# Altium schematic symbol library kmilo17pet-LT_OpAmp_LT2000.SchLib: 1710 symbols (part 35 of 75)
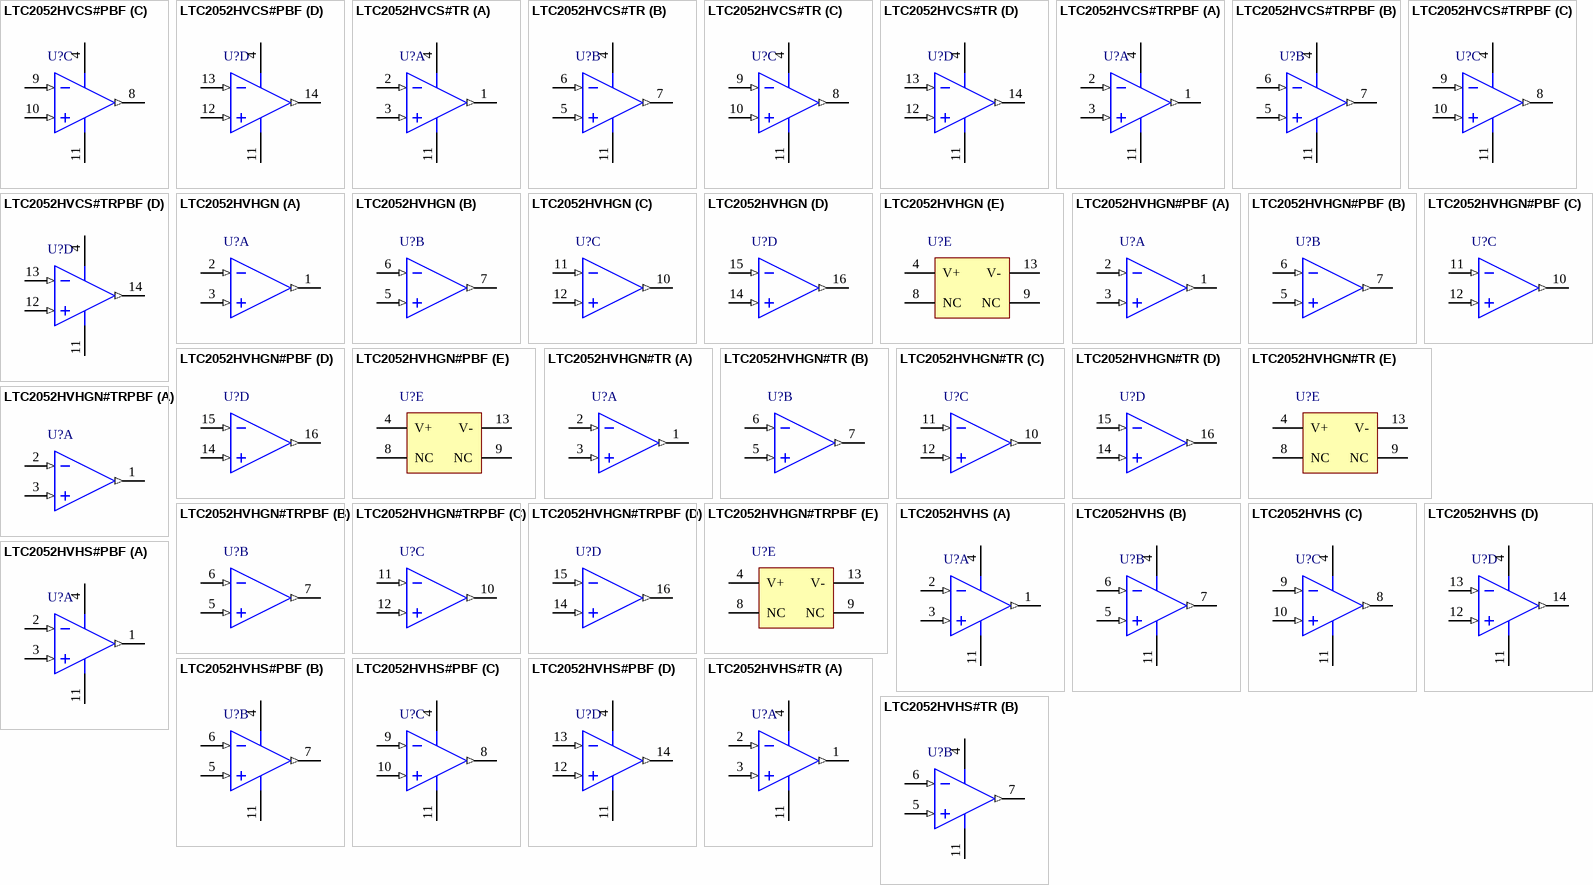
[diagram p114: symbols LTC2052HVCS#PBF to LTC2052HVHS#TR]

## LTC2052HVHS#PBF
designator U?
Quad Channel, Zero-Drift Operational Amplifier, 3 MHz Typical GBW, 2 V/us Typical SR, 2.7 to 11 V, 14-Pin SOIC (S-14), High Temperature / Automotive, Pb-Free; Linear Technology Part Number: LTC2052HV; Manufacturer: Linear Technology; PartNumber: LTC2052HVHS#PBF; Channels (#): 4; GBW (MHz) Typical: 3; Is (mA) Typical: 0.85; SR (V/us) Typical: 2; Vos (mV) Typical: 0.0005; Vs Max (V): 11; Vs Min (V): 2.7; DatasheetVersion: Rev. D; PackageVersion: Rev G; PackageReference: LT-S-14; PackageDescription: 14-Lead Plastic Small Outline, Body 8.65 x 3.90 mm, Pitch 1.27 mm; Supplier 1: Digi-Key; Supplier Part Number 1: LTC2052HVHS#PBF-ND; Supplier 2: Newark; Supplier Part Number 2: 56M4686; RoHS: Pb-Free; Type: ZD; Mounting Technology: Surface Mount; ComponentLink1Description: Manufacturer URL; ComponentLink1URL: http://www.linear.com/; ComponentLink2Description: Datasheet; ComponentLink2URL: http://cds.linear.com/docs/en/datasheet/20512fd.pdf; ComponentLink3Description: Package Specification; ComponentLink3URL: http://cds.linear.com/docs/en/packaging/05081610_G_S14.pdf
footprint LT-S-14_N (SOIC, 14-Leads, Body 8.65x3.90mm, Pitch 1.27mm, IPC Medium Density)
footprint LT-S-14_L (SOIC, 14-Leads, Body 8.65x3.90mm, Pitch 1.27mm, IPC High Density)
footprint LT-S-14_M (SOIC, 14-Leads, Body 8.65x3.90mm, Pitch 1.27mm, IPC Low Density)
pins on every part: 4 V+ (power), 11 V- (power)
part A pins: 1 OUT A (out), 2 -IN A (in), 3 +IN A (in)
part B pins: 5 +IN B (in), 6 -IN B (in), 7 OUT B (out)
part C pins: 8 OUT C (out), 9 -IN C (in), 10 +IN C (in)
part D pins: 12 +IN D (in), 13 -IN D (in), 14 OUT D (out)

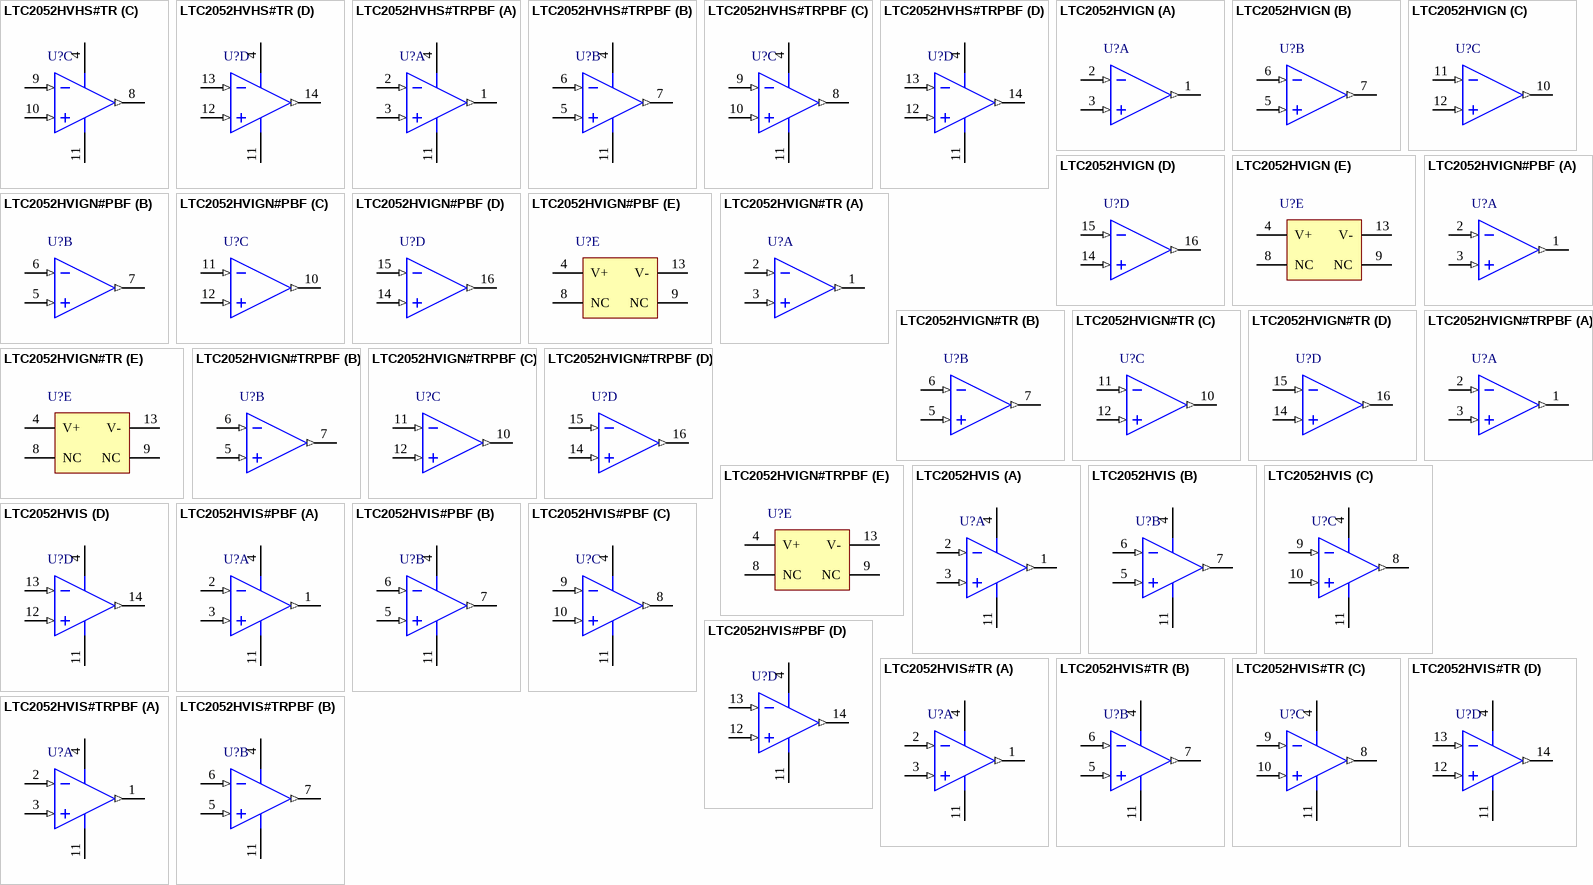
[diagram p45: symbols LTC2052HVHS#TR to LTC2052HVIS#TRPBF]

## LTC2052HVHS#TR
designator U?
Quad Channel, Zero-Drift Operational Amplifier, 3 MHz Typical GBW, 2 V/us Typical SR, 2.7 to 11 V, 14-Pin SOIC (S-14), High Temperature / Automotive, Reel; Linear Technology Part Number: LTC2052HV; Manufacturer: Linear Technology; PartNumber: LTC2052HVHS#TR; Channels (#): 4; GBW (MHz) Typical: 3; Is (mA) Typical: 0.85; SR (V/us) Typical: 2; Vos (mV) Typical: 0.0005; Vs Max (V): 11; Vs Min (V): 2.7; DatasheetVersion: Rev. D; PackageVersion: Rev G; PackageReference: LT-S-14; PackageDescription: 14-Lead Plastic Small Outline, Body 8.65 x 3.90 mm, Pitch 1.27 mm; Supplier 1: Digi-Key; Supplier Part Number 1: LTC2052HVHSTR-ND; Packing: Reel; Type: ZD; Mounting Technology: Surface Mount; ComponentLink1Description: Manufacturer URL; ComponentLink1URL: http://www.linear.com/; ComponentLink2Description: Datasheet; ComponentLink2URL: http://cds.linear.com/docs/en/datasheet/20512fd.pdf; ComponentLink3Description: Package Specification; ComponentLink3URL: http://cds.linear.com/docs/en/packaging/05081610_G_S14.pdf
footprint LT-S-14_N (SOIC, 14-Leads, Body 8.65x3.90mm, Pitch 1.27mm, IPC Medium Density)
footprint LT-S-14_L (SOIC, 14-Leads, Body 8.65x3.90mm, Pitch 1.27mm, IPC High Density)
footprint LT-S-14_M (SOIC, 14-Leads, Body 8.65x3.90mm, Pitch 1.27mm, IPC Low Density)
pins on every part: 4 V+ (power), 11 V- (power)
part A pins: 1 OUT A (out), 2 -IN A (in), 3 +IN A (in)
part B pins: 5 +IN B (in), 6 -IN B (in), 7 OUT B (out)
part C pins: 8 OUT C (out), 9 -IN C (in), 10 +IN C (in)
part D pins: 12 +IN D (in), 13 -IN D (in), 14 OUT D (out)

## LTC2052HVHS#TRPBF
designator U?
Quad Channel, Zero-Drift Operational Amplifier, 3 MHz Typical GBW, 2 V/us Typical SR, 2.7 to 11 V, 14-Pin SOIC (S-14), High Temperature / Automotive, Pb-Free, Reel; Linear Technology Part Number: LTC2052HV; Manufacturer: Linear Technology; PartNumber: LTC2052HVHS#TRPBF; Channels (#): 4; GBW (MHz) Typical: 3; Is (mA) Typical: 0.85; SR (V/us) Typical: 2; Vos (mV) Typical: 0.0005; Vs Max (V): 11; Vs Min (V): 2.7; DatasheetVersion: Rev. D; PackageVersion: Rev G; PackageReference: LT-S-14; PackageDescription: 14-Lead Plastic Small Outline, Body 8.65 x 3.90 mm, Pitch 1.27 mm; Supplier 1: Digi-Key; Supplier Part Number 1: LTC2052HVHS#TRPBF-ND; Packing: Reel; RoHS: Pb-Free; Type: ZD; Mounting Technology: Surface Mount; ComponentLink1Description: Manufacturer URL; ComponentLink1URL: http://www.linear.com/; ComponentLink2Description: Datasheet; ComponentLink2URL: http://cds.linear.com/docs/en/datasheet/20512fd.pdf; ComponentLink3Description: Package Specification; ComponentLink3URL: http://cds.linear.com/docs/en/packaging/05081610_G_S14.pdf
footprint LT-S-14_N (SOIC, 14-Leads, Body 8.65x3.90mm, Pitch 1.27mm, IPC Medium Density)
footprint LT-S-14_L (SOIC, 14-Leads, Body 8.65x3.90mm, Pitch 1.27mm, IPC High Density)
footprint LT-S-14_M (SOIC, 14-Leads, Body 8.65x3.90mm, Pitch 1.27mm, IPC Low Density)
pins on every part: 4 V+ (power), 11 V- (power)
part A pins: 1 OUT A (out), 2 -IN A (in), 3 +IN A (in)
part B pins: 5 +IN B (in), 6 -IN B (in), 7 OUT B (out)
part C pins: 8 OUT C (out), 9 -IN C (in), 10 +IN C (in)
part D pins: 12 +IN D (in), 13 -IN D (in), 14 OUT D (out)

## LTC2052HVIGN
designator U?
Quad Channel, Zero-Drift Operational Amplifier, 3 MHz Typical GBW, 2 V/us Typical SR, 2.7 to 11 V, 16-Pin SOP (GN-16), Industrial; Linear Technology Part Number: LTC2052HV; Manufacturer: Linear Technology; PartNumber: LTC2052HVIGN; Channels (#): 4; GBW (MHz) Typical: 3; Is (mA) Typical: 0.85; SR (V/us) Typical: 2; Vos (mV) Typical: 0.0005; Vs Max (V): 11; Vs Min (V): 2.7; DatasheetVersion: Rev. D; PackageVersion: Rev B; PackageReference: LT-GN-16; PackageDescription: 16-Lead Plastic SSOP, Body 4.9 x 3.9 mm, Pitch 0.635 mm; Supplier 1: Digi-Key; Supplier Part Number 1: LTC2052HVIGN-ND; Supplier 2: Newark; Supplier Part Number 2: 56M4689; Type: ZD; Mounting Technology: Surface Mount; ComponentLink1Description: Manufacturer URL; ComponentLink1URL: http://www.linear.com/; ComponentLink2Description: Datasheet; ComponentLink2URL: http://cds.linear.com/docs/en/datasheet/20512fd.pdf; ComponentLink3Description: Package Specification; ComponentLink3URL: http://cds.linear.com/docs/en/packaging/05081641_B_GN16.pdf
footprint LT-GN-16_N (SOP, 16-Leads, Body 4.9x3.9mm, Pitch 0.635mm, IPC Medium Density)
footprint LT-GN-16_L (SOP, 16-Leads, Body 4.9x3.9mm, Pitch 0.635mm, IPC High Density)
footprint LT-GN-16_M (SOP, 16-Leads, Body 4.9x3.9mm, Pitch 0.635mm, IPC Low Density)
part A pins: 1 OUT A (out), 2 -IN A (in), 3 +IN A (in)
part B pins: 5 +IN B (in), 6 -IN B (in), 7 OUT B (out)
part C pins: 10 OUT C (out), 11 -IN C (in), 12 +IN C (in)
part D pins: 14 +IN D (in), 15 -IN D (in), 16 OUT D (out)
part E pins: 4 V+ (power), 8 NC, 9 NC, 13 V- (power)

## LTC2052HVIGN#PBF
designator U?
Quad Channel, Zero-Drift Operational Amplifier, 3 MHz Typical GBW, 2 V/us Typical SR, 2.7 to 11 V, 16-Pin SOP (GN-16), Industrial, Pb-Free; Linear Technology Part Number: LTC2052HV; Manufacturer: Linear Technology; PartNumber: LTC2052HVIGN#PBF; Channels (#): 4; GBW (MHz) Typical: 3; Is (mA) Typical: 0.85; SR (V/us) Typical: 2; Vos (mV) Typical: 0.0005; Vs Max (V): 11; Vs Min (V): 2.7; DatasheetVersion: Rev. D; PackageVersion: Rev B; PackageReference: LT-GN-16; PackageDescription: 16-Lead Plastic SSOP, Body 4.9 x 3.9 mm, Pitch 0.635 mm; Supplier 1: Digi-Key; Supplier Part Number 1: LTC2052HVIGN#PBF-ND; Supplier 2: Farnell; Supplier Part Number 2: 2294728; Supplier 3: Newark; Supplier Part Number 3: 56M4690; RoHS: Pb-Free; Type: ZD; Mounting Technology: Surface Mount; ComponentLink1Description: Manufacturer URL; ComponentLink1URL: http://www.linear.com/; ComponentLink2Description: Datasheet; ComponentLink2URL: http://cds.linear.com/docs/en/datasheet/20512fd.pdf; ComponentLink3Description: Package Specification; ComponentLink3URL: http://cds.linear.com/docs/en/packaging/05081641_B_GN16.pdf
footprint LT-GN-16_N (SOP, 16-Leads, Body 4.9x3.9mm, Pitch 0.635mm, IPC Medium Density)
footprint LT-GN-16_L (SOP, 16-Leads, Body 4.9x3.9mm, Pitch 0.635mm, IPC High Density)
footprint LT-GN-16_M (SOP, 16-Leads, Body 4.9x3.9mm, Pitch 0.635mm, IPC Low Density)
part A pins: 1 OUT A (out), 2 -IN A (in), 3 +IN A (in)
part B pins: 5 +IN B (in), 6 -IN B (in), 7 OUT B (out)
part C pins: 10 OUT C (out), 11 -IN C (in), 12 +IN C (in)
part D pins: 14 +IN D (in), 15 -IN D (in), 16 OUT D (out)
part E pins: 4 V+ (power), 8 NC, 9 NC, 13 V- (power)

## LTC2052HVIGN#TR
designator U?
Quad Channel, Zero-Drift Operational Amplifier, 3 MHz Typical GBW, 2 V/us Typical SR, 2.7 to 11 V, 16-Pin SOP (GN-16), Industrial, Reel; Linear Technology Part Number: LTC2052HV; Manufacturer: Linear Technology; PartNumber: LTC2052HVIGN#TR; Channels (#): 4; GBW (MHz) Typical: 3; Is (mA) Typical: 0.85; SR (V/us) Typical: 2; Vos (mV) Typical: 0.0005; Vs Max (V): 11; Vs Min (V): 2.7; DatasheetVersion: Rev. D; PackageVersion: Rev B; PackageReference: LT-GN-16; PackageDescription: 16-Lead Plastic SSOP, Body 4.9 x 3.9 mm, Pitch 0.635 mm; Supplier 1: Digi-Key; Supplier Part Number 1: LTC2052HVIGNTR-ND; Supplier 2: Newark; Supplier Part Number 2: 56M4691; Packing: Reel; Type: ZD; Mounting Technology: Surface Mount; ComponentLink1Description: Manufacturer URL; ComponentLink1URL: http://www.linear.com/; ComponentLink2Description: Datasheet; ComponentLink2URL: http://cds.linear.com/docs/en/datasheet/20512fd.pdf; ComponentLink3Description: Package Specification; ComponentLink3URL: http://cds.linear.com/docs/en/packaging/05081641_B_GN16.pdf
footprint LT-GN-16_N (SOP, 16-Leads, Body 4.9x3.9mm, Pitch 0.635mm, IPC Medium Density)
footprint LT-GN-16_L (SOP, 16-Leads, Body 4.9x3.9mm, Pitch 0.635mm, IPC High Density)
footprint LT-GN-16_M (SOP, 16-Leads, Body 4.9x3.9mm, Pitch 0.635mm, IPC Low Density)
part A pins: 1 OUT A (out), 2 -IN A (in), 3 +IN A (in)
part B pins: 5 +IN B (in), 6 -IN B (in), 7 OUT B (out)
part C pins: 10 OUT C (out), 11 -IN C (in), 12 +IN C (in)
part D pins: 14 +IN D (in), 15 -IN D (in), 16 OUT D (out)
part E pins: 4 V+ (power), 8 NC, 9 NC, 13 V- (power)

## LTC2052HVIGN#TRPBF
designator U?
Quad Channel, Zero-Drift Operational Amplifier, 3 MHz Typical GBW, 2 V/us Typical SR, 2.7 to 11 V, 16-Pin SOP (GN-16), Industrial, Pb-Free, Reel; Linear Technology Part Number: LTC2052HV; Manufacturer: Linear Technology; PartNumber: LTC2052HVIGN#TRPBF; Channels (#): 4; GBW (MHz) Typical: 3; Is (mA) Typical: 0.85; SR (V/us) Typical: 2; Vos (mV) Typical: 0.0005; Vs Max (V): 11; Vs Min (V): 2.7; DatasheetVersion: Rev. D; PackageVersion: Rev B; PackageReference: LT-GN-16; PackageDescription: 16-Lead Plastic SSOP, Body 4.9 x 3.9 mm, Pitch 0.635 mm; Supplier 1: Digi-Key; Supplier Part Number 1: LTC2052HVIGN#TRPBF-ND; Packing: Reel; RoHS: Pb-Free; Type: ZD; Mounting Technology: Surface Mount; ComponentLink1Description: Manufacturer URL; ComponentLink1URL: http://www.linear.com/; ComponentLink2Description: Datasheet; ComponentLink2URL: http://cds.linear.com/docs/en/datasheet/20512fd.pdf; ComponentLink3Description: Package Specification; ComponentLink3URL: http://cds.linear.com/docs/en/packaging/05081641_B_GN16.pdf
footprint LT-GN-16_N (SOP, 16-Leads, Body 4.9x3.9mm, Pitch 0.635mm, IPC Medium Density)
footprint LT-GN-16_L (SOP, 16-Leads, Body 4.9x3.9mm, Pitch 0.635mm, IPC High Density)
footprint LT-GN-16_M (SOP, 16-Leads, Body 4.9x3.9mm, Pitch 0.635mm, IPC Low Density)
part A pins: 1 OUT A (out), 2 -IN A (in), 3 +IN A (in)
part B pins: 5 +IN B (in), 6 -IN B (in), 7 OUT B (out)
part C pins: 10 OUT C (out), 11 -IN C (in), 12 +IN C (in)
part D pins: 14 +IN D (in), 15 -IN D (in), 16 OUT D (out)
part E pins: 4 V+ (power), 8 NC, 9 NC, 13 V- (power)

## LTC2052HVIS
designator U?
Quad Channel, Zero-Drift Operational Amplifier, 3 MHz Typical GBW, 2 V/us Typical SR, 2.7 to 11 V, 14-Pin SOIC (S-14), Industrial; Linear Technology Part Number: LTC2052HV; Manufacturer: Linear Technology; PartNumber: LTC2052HVIS; Channels (#): 4; GBW (MHz) Typical: 3; Is (mA) Typical: 0.85; SR (V/us) Typical: 2; Vos (mV) Typical: 0.0005; Vs Max (V): 11; Vs Min (V): 2.7; DatasheetVersion: Rev. D; PackageVersion: Rev G; PackageReference: LT-S-14; PackageDescription: 14-Lead Plastic Small Outline, Body 8.65 x 3.90 mm, Pitch 1.27 mm; Supplier 1: Digi-Key; Supplier Part Number 1: LTC2052HVIS-ND; Type: ZD; Mounting Technology: Surface Mount; ComponentLink1Description: Manufacturer URL; ComponentLink1URL: http://www.linear.com/; ComponentLink2Description: Datasheet; ComponentLink2URL: http://cds.linear.com/docs/en/datasheet/20512fd.pdf; ComponentLink3Description: Package Specification; ComponentLink3URL: http://cds.linear.com/docs/en/packaging/05081610_G_S14.pdf
footprint LT-S-14_N (SOIC, 14-Leads, Body 8.65x3.90mm, Pitch 1.27mm, IPC Medium Density)
footprint LT-S-14_L (SOIC, 14-Leads, Body 8.65x3.90mm, Pitch 1.27mm, IPC High Density)
footprint LT-S-14_M (SOIC, 14-Leads, Body 8.65x3.90mm, Pitch 1.27mm, IPC Low Density)
pins on every part: 4 V+ (power), 11 V- (power)
part A pins: 1 OUT A (out), 2 -IN A (in), 3 +IN A (in)
part B pins: 5 +IN B (in), 6 -IN B (in), 7 OUT B (out)
part C pins: 8 OUT C (out), 9 -IN C (in), 10 +IN C (in)
part D pins: 12 +IN D (in), 13 -IN D (in), 14 OUT D (out)

## LTC2052HVIS#PBF
designator U?
Quad Channel, Zero-Drift Operational Amplifier, 3 MHz Typical GBW, 2 V/us Typical SR, 2.7 to 11 V, 14-Pin SOIC (S-14), Industrial, Pb-Free; Linear Technology Part Number: LTC2052HV; Manufacturer: Linear Technology; PartNumber: LTC2052HVIS#PBF; Channels (#): 4; GBW (MHz) Typical: 3; Is (mA) Typical: 0.85; SR (V/us) Typical: 2; Vos (mV) Typical: 0.0005; Vs Max (V): 11; Vs Min (V): 2.7; DatasheetVersion: Rev. D; PackageVersion: Rev G; PackageReference: LT-S-14; PackageDescription: 14-Lead Plastic Small Outline, Body 8.65 x 3.90 mm, Pitch 1.27 mm; Supplier 1: Digi-Key; Supplier Part Number 1: LTC2052HVIS#PBF-ND; Supplier 2: Newark; Supplier Part Number 2: 56M4694; RoHS: Pb-Free; Type: ZD; Mounting Technology: Surface Mount; ComponentLink1Description: Manufacturer URL; ComponentLink1URL: http://www.linear.com/; ComponentLink2Description: Datasheet; ComponentLink2URL: http://cds.linear.com/docs/en/datasheet/20512fd.pdf; ComponentLink3Description: Package Specification; ComponentLink3URL: http://cds.linear.com/docs/en/packaging/05081610_G_S14.pdf
footprint LT-S-14_N (SOIC, 14-Leads, Body 8.65x3.90mm, Pitch 1.27mm, IPC Medium Density)
footprint LT-S-14_L (SOIC, 14-Leads, Body 8.65x3.90mm, Pitch 1.27mm, IPC High Density)
footprint LT-S-14_M (SOIC, 14-Leads, Body 8.65x3.90mm, Pitch 1.27mm, IPC Low Density)
pins on every part: 4 V+ (power), 11 V- (power)
part A pins: 1 OUT A (out), 2 -IN A (in), 3 +IN A (in)
part B pins: 5 +IN B (in), 6 -IN B (in), 7 OUT B (out)
part C pins: 8 OUT C (out), 9 -IN C (in), 10 +IN C (in)
part D pins: 12 +IN D (in), 13 -IN D (in), 14 OUT D (out)

## LTC2052HVIS#TR
designator U?
Quad Channel, Zero-Drift Operational Amplifier, 3 MHz Typical GBW, 2 V/us Typical SR, 2.7 to 11 V, 14-Pin SOIC (S-14), Industrial, Reel; Linear Technology Part Number: LTC2052HV; Manufacturer: Linear Technology; PartNumber: LTC2052HVIS#TR; Channels (#): 4; GBW (MHz) Typical: 3; Is (mA) Typical: 0.85; SR (V/us) Typical: 2; Vos (mV) Typical: 0.0005; Vs Max (V): 11; Vs Min (V): 2.7; DatasheetVersion: Rev. D; PackageVersion: Rev G; PackageReference: LT-S-14; PackageDescription: 14-Lead Plastic Small Outline, Body 8.65 x 3.90 mm, Pitch 1.27 mm; Supplier 1: Digi-Key; Supplier Part Number 1: LTC2052HVISTR-ND; Packing: Reel; Type: ZD; Mounting Technology: Surface Mount; ComponentLink1Description: Manufacturer URL; ComponentLink1URL: http://www.linear.com/; ComponentLink2Description: Datasheet; ComponentLink2URL: http://cds.linear.com/docs/en/datasheet/20512fd.pdf; ComponentLink3Description: Package Specification; ComponentLink3URL: http://cds.linear.com/docs/en/packaging/05081610_G_S14.pdf
footprint LT-S-14_N (SOIC, 14-Leads, Body 8.65x3.90mm, Pitch 1.27mm, IPC Medium Density)
footprint LT-S-14_L (SOIC, 14-Leads, Body 8.65x3.90mm, Pitch 1.27mm, IPC High Density)
footprint LT-S-14_M (SOIC, 14-Leads, Body 8.65x3.90mm, Pitch 1.27mm, IPC Low Density)
pins on every part: 4 V+ (power), 11 V- (power)
part A pins: 1 OUT A (out), 2 -IN A (in), 3 +IN A (in)
part B pins: 5 +IN B (in), 6 -IN B (in), 7 OUT B (out)
part C pins: 8 OUT C (out), 9 -IN C (in), 10 +IN C (in)
part D pins: 12 +IN D (in), 13 -IN D (in), 14 OUT D (out)

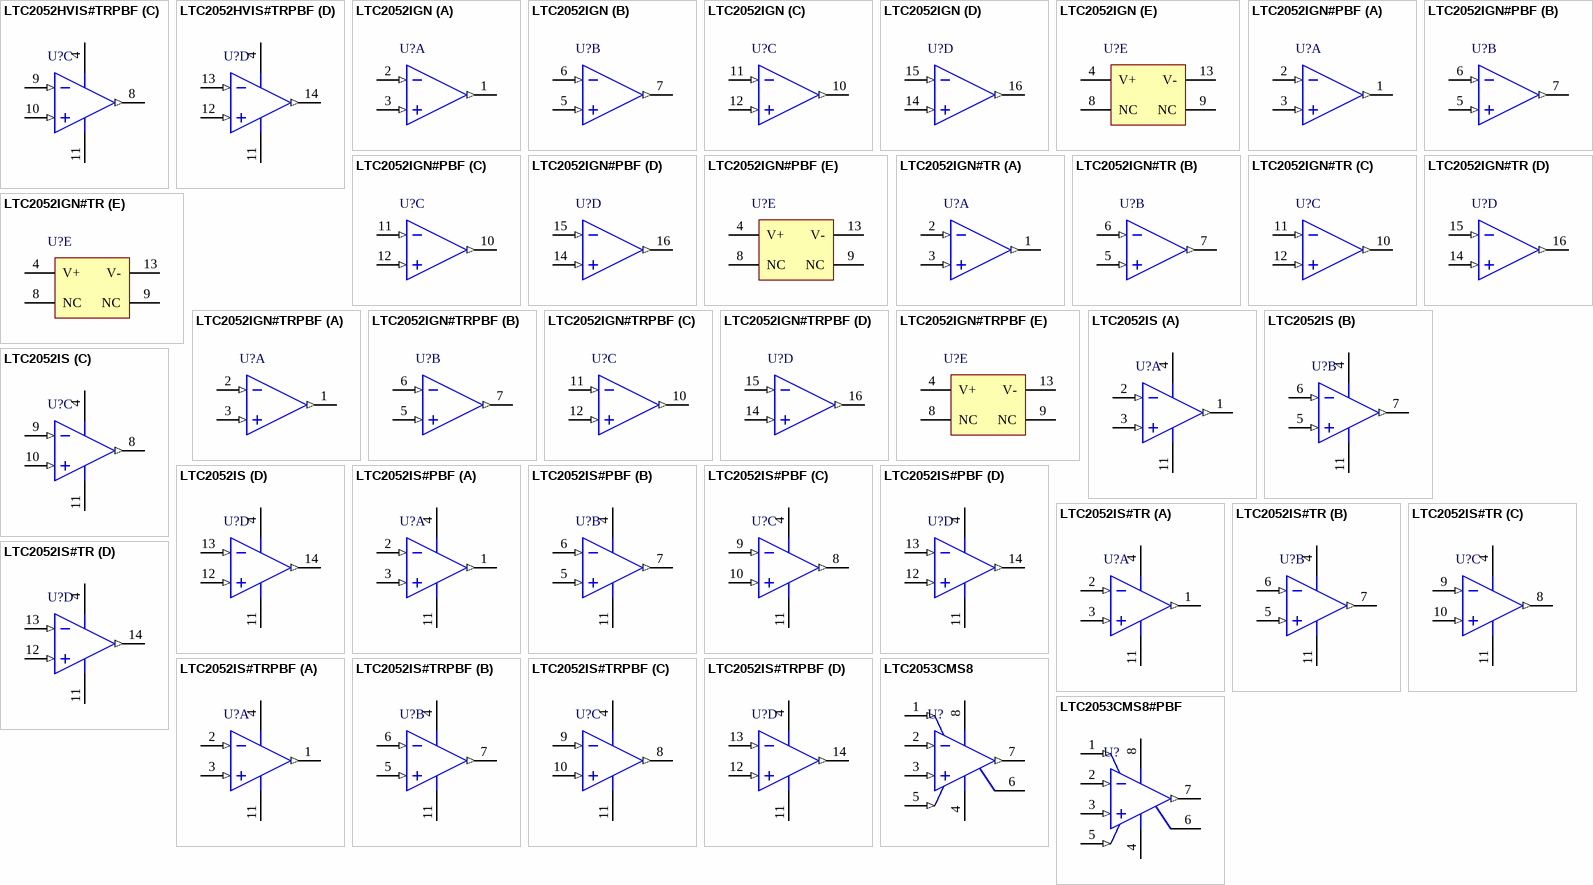
[diagram p46: symbols LTC2052HVIS#TRPBF to LTC2053CMS8#PBF]

## LTC2052HVIS#TRPBF
designator U?
Quad Channel, Zero-Drift Operational Amplifier, 3 MHz Typical GBW, 2 V/us Typical SR, 2.7 to 11 V, 14-Pin SOIC (S-14), Industrial, Pb-Free, Reel; Linear Technology Part Number: LTC2052HV; Manufacturer: Linear Technology; PartNumber: LTC2052HVIS#TRPBF; Channels (#): 4; GBW (MHz) Typical: 3; Is (mA) Typical: 0.85; SR (V/us) Typical: 2; Vos (mV) Typical: 0.0005; Vs Max (V): 11; Vs Min (V): 2.7; DatasheetVersion: Rev. D; PackageVersion: Rev G; PackageReference: LT-S-14; PackageDescription: 14-Lead Plastic Small Outline, Body 8.65 x 3.90 mm, Pitch 1.27 mm; Supplier 1: Digi-Key; Supplier Part Number 1: LTC2052HVIS#TRPBF-ND; Packing: Reel; RoHS: Pb-Free; Type: ZD; Mounting Technology: Surface Mount; ComponentLink1Description: Manufacturer URL; ComponentLink1URL: http://www.linear.com/; ComponentLink2Description: Datasheet; ComponentLink2URL: http://cds.linear.com/docs/en/datasheet/20512fd.pdf; ComponentLink3Description: Package Specification; ComponentLink3URL: http://cds.linear.com/docs/en/packaging/05081610_G_S14.pdf
footprint LT-S-14_N (SOIC, 14-Leads, Body 8.65x3.90mm, Pitch 1.27mm, IPC Medium Density)
footprint LT-S-14_L (SOIC, 14-Leads, Body 8.65x3.90mm, Pitch 1.27mm, IPC High Density)
footprint LT-S-14_M (SOIC, 14-Leads, Body 8.65x3.90mm, Pitch 1.27mm, IPC Low Density)
pins on every part: 4 V+ (power), 11 V- (power)
part A pins: 1 OUT A (out), 2 -IN A (in), 3 +IN A (in)
part B pins: 5 +IN B (in), 6 -IN B (in), 7 OUT B (out)
part C pins: 8 OUT C (out), 9 -IN C (in), 10 +IN C (in)
part D pins: 12 +IN D (in), 13 -IN D (in), 14 OUT D (out)

## LTC2052IGN
designator U?
Quad Channel, Zero-Drift Operational Amplifier, 3 MHz Typical GBW, 2 V/us Typical SR, 2.7 to 6 V, 16-Pin SOP (GN-16), Industrial; Linear Technology Part Number: LTC2052; Manufacturer: Linear Technology; PartNumber: LTC2052IGN; Channels (#): 4; GBW (MHz) Typical: 3; Is (mA) Typical: 0.85; SR (V/us) Typical: 2; Vos (mV) Typical: 0.0005; Vs Max (V): 6; Vs Min (V): 2.7; DatasheetVersion: Rev. D; PackageVersion: Rev B; PackageReference: LT-GN-16; PackageDescription: 16-Lead Plastic SSOP, Body 4.9 x 3.9 mm, Pitch 0.635 mm; Supplier 1: Digi-Key; Supplier Part Number 1: LTC2052IGN-ND; Type: ZD; Mounting Technology: Surface Mount; ComponentLink1Description: Manufacturer URL; ComponentLink1URL: http://www.linear.com/; ComponentLink2Description: Datasheet; ComponentLink2URL: http://cds.linear.com/docs/en/datasheet/20512fd.pdf; ComponentLink3Description: Package Specification; ComponentLink3URL: http://cds.linear.com/docs/en/packaging/05081641_B_GN16.pdf
footprint LT-GN-16_N (SOP, 16-Leads, Body 4.9x3.9mm, Pitch 0.635mm, IPC Medium Density)
footprint LT-GN-16_L (SOP, 16-Leads, Body 4.9x3.9mm, Pitch 0.635mm, IPC High Density)
footprint LT-GN-16_M (SOP, 16-Leads, Body 4.9x3.9mm, Pitch 0.635mm, IPC Low Density)
part A pins: 1 OUT A (out), 2 -IN A (in), 3 +IN A (in)
part B pins: 5 +IN B (in), 6 -IN B (in), 7 OUT B (out)
part C pins: 10 OUT C (out), 11 -IN C (in), 12 +IN C (in)
part D pins: 14 +IN D (in), 15 -IN D (in), 16 OUT D (out)
part E pins: 4 V+ (power), 8 NC, 9 NC, 13 V- (power)

## LTC2052IGN#PBF
designator U?
Quad Channel, Zero-Drift Operational Amplifier, 3 MHz Typical GBW, 2 V/us Typical SR, 2.7 to 6 V, 16-Pin SOP (GN-16), Industrial, Pb-Free; Linear Technology Part Number: LTC2052; Manufacturer: Linear Technology; PartNumber: LTC2052IGN#PBF; Channels (#): 4; GBW (MHz) Typical: 3; Is (mA) Typical: 0.85; SR (V/us) Typical: 2; Vos (mV) Typical: 0.0005; Vs Max (V): 6; Vs Min (V): 2.7; DatasheetVersion: Rev. D; PackageVersion: Rev B; PackageReference: LT-GN-16; PackageDescription: 16-Lead Plastic SSOP, Body 4.9 x 3.9 mm, Pitch 0.635 mm; Supplier 1: Digi-Key; Supplier Part Number 1: LTC2052IGN#PBF-ND; Supplier 2: Newark; Supplier Part Number 2: 56M4698; RoHS: Pb-Free; Type: ZD; Mounting Technology: Surface Mount; ComponentLink1Description: Manufacturer URL; ComponentLink1URL: http://www.linear.com/; ComponentLink2Description: Datasheet; ComponentLink2URL: http://cds.linear.com/docs/en/datasheet/20512fd.pdf; ComponentLink3Description: Package Specification; ComponentLink3URL: http://cds.linear.com/docs/en/packaging/05081641_B_GN16.pdf
footprint LT-GN-16_N (SOP, 16-Leads, Body 4.9x3.9mm, Pitch 0.635mm, IPC Medium Density)
footprint LT-GN-16_L (SOP, 16-Leads, Body 4.9x3.9mm, Pitch 0.635mm, IPC High Density)
footprint LT-GN-16_M (SOP, 16-Leads, Body 4.9x3.9mm, Pitch 0.635mm, IPC Low Density)
part A pins: 1 OUT A (out), 2 -IN A (in), 3 +IN A (in)
part B pins: 5 +IN B (in), 6 -IN B (in), 7 OUT B (out)
part C pins: 10 OUT C (out), 11 -IN C (in), 12 +IN C (in)
part D pins: 14 +IN D (in), 15 -IN D (in), 16 OUT D (out)
part E pins: 4 V+ (power), 8 NC, 9 NC, 13 V- (power)

## LTC2052IGN#TR
designator U?
Quad Channel, Zero-Drift Operational Amplifier, 3 MHz Typical GBW, 2 V/us Typical SR, 2.7 to 6 V, 16-Pin SOP (GN-16), Industrial, Reel; Linear Technology Part Number: LTC2052; Manufacturer: Linear Technology; PartNumber: LTC2052IGN#TR; Channels (#): 4; GBW (MHz) Typical: 3; Is (mA) Typical: 0.85; SR (V/us) Typical: 2; Vos (mV) Typical: 0.0005; Vs Max (V): 6; Vs Min (V): 2.7; DatasheetVersion: Rev. D; PackageVersion: Rev B; PackageReference: LT-GN-16; PackageDescription: 16-Lead Plastic SSOP, Body 4.9 x 3.9 mm, Pitch 0.635 mm; Supplier 1: Digi-Key; Supplier Part Number 1: LTC2052IGNTR-ND; Packing: Reel; Type: ZD; Mounting Technology: Surface Mount; ComponentLink1Description: Manufacturer URL; ComponentLink1URL: http://www.linear.com/; ComponentLink2Description: Datasheet; ComponentLink2URL: http://cds.linear.com/docs/en/datasheet/20512fd.pdf; ComponentLink3Description: Package Specification; ComponentLink3URL: http://cds.linear.com/docs/en/packaging/05081641_B_GN16.pdf
footprint LT-GN-16_N (SOP, 16-Leads, Body 4.9x3.9mm, Pitch 0.635mm, IPC Medium Density)
footprint LT-GN-16_L (SOP, 16-Leads, Body 4.9x3.9mm, Pitch 0.635mm, IPC High Density)
footprint LT-GN-16_M (SOP, 16-Leads, Body 4.9x3.9mm, Pitch 0.635mm, IPC Low Density)
part A pins: 1 OUT A (out), 2 -IN A (in), 3 +IN A (in)
part B pins: 5 +IN B (in), 6 -IN B (in), 7 OUT B (out)
part C pins: 10 OUT C (out), 11 -IN C (in), 12 +IN C (in)
part D pins: 14 +IN D (in), 15 -IN D (in), 16 OUT D (out)
part E pins: 4 V+ (power), 8 NC, 9 NC, 13 V- (power)

## LTC2052IGN#TRPBF
designator U?
Quad Channel, Zero-Drift Operational Amplifier, 3 MHz Typical GBW, 2 V/us Typical SR, 2.7 to 6 V, 16-Pin SOP (GN-16), Industrial, Pb-Free, Reel; Linear Technology Part Number: LTC2052; Manufacturer: Linear Technology; PartNumber: LTC2052IGN#TRPBF; Channels (#): 4; GBW (MHz) Typical: 3; Is (mA) Typical: 0.85; SR (V/us) Typical: 2; Vos (mV) Typical: 0.0005; Vs Max (V): 6; Vs Min (V): 2.7; DatasheetVersion: Rev. D; PackageVersion: Rev B; PackageReference: LT-GN-16; PackageDescription: 16-Lead Plastic SSOP, Body 4.9 x 3.9 mm, Pitch 0.635 mm; Supplier 1: Digi-Key; Supplier Part Number 1: LTC2052IGN#TRPBF-ND; Packing: Reel; RoHS: Pb-Free; Type: ZD; Mounting Technology: Surface Mount; ComponentLink1Description: Manufacturer URL; ComponentLink1URL: http://www.linear.com/; ComponentLink2Description: Datasheet; ComponentLink2URL: http://cds.linear.com/docs/en/datasheet/20512fd.pdf; ComponentLink3Description: Package Specification; ComponentLink3URL: http://cds.linear.com/docs/en/packaging/05081641_B_GN16.pdf
footprint LT-GN-16_N (SOP, 16-Leads, Body 4.9x3.9mm, Pitch 0.635mm, IPC Medium Density)
footprint LT-GN-16_L (SOP, 16-Leads, Body 4.9x3.9mm, Pitch 0.635mm, IPC High Density)
footprint LT-GN-16_M (SOP, 16-Leads, Body 4.9x3.9mm, Pitch 0.635mm, IPC Low Density)
part A pins: 1 OUT A (out), 2 -IN A (in), 3 +IN A (in)
part B pins: 5 +IN B (in), 6 -IN B (in), 7 OUT B (out)
part C pins: 10 OUT C (out), 11 -IN C (in), 12 +IN C (in)
part D pins: 14 +IN D (in), 15 -IN D (in), 16 OUT D (out)
part E pins: 4 V+ (power), 8 NC, 9 NC, 13 V- (power)

## LTC2052IS
designator U?
Quad Channel, Zero-Drift Operational Amplifier, 3 MHz Typical GBW, 2 V/us Typical SR, 2.7 to 6 V, 14-Pin SOIC (S-14), Industrial; Linear Technology Part Number: LTC2052; Manufacturer: Linear Technology; PartNumber: LTC2052IS; Channels (#): 4; GBW (MHz) Typical: 3; Is (mA) Typical: 0.85; SR (V/us) Typical: 2; Vos (mV) Typical: 0.0005; Vs Max (V): 6; Vs Min (V): 2.7; DatasheetVersion: Rev. D; PackageVersion: Rev G; PackageReference: LT-S-14; PackageDescription: 14-Lead Plastic Small Outline, Body 8.65 x 3.90 mm, Pitch 1.27 mm; Supplier 1: Digi-Key; Supplier Part Number 1: LTC2052IS-ND; Type: ZD; Mounting Technology: Surface Mount; ComponentLink1Description: Manufacturer URL; ComponentLink1URL: http://www.linear.com/; ComponentLink2Description: Datasheet; ComponentLink2URL: http://cds.linear.com/docs/en/datasheet/20512fd.pdf; ComponentLink3Description: Package Specification; ComponentLink3URL: http://cds.linear.com/docs/en/packaging/05081610_G_S14.pdf
footprint LT-S-14_N (SOIC, 14-Leads, Body 8.65x3.90mm, Pitch 1.27mm, IPC Medium Density)
footprint LT-S-14_L (SOIC, 14-Leads, Body 8.65x3.90mm, Pitch 1.27mm, IPC High Density)
footprint LT-S-14_M (SOIC, 14-Leads, Body 8.65x3.90mm, Pitch 1.27mm, IPC Low Density)
pins on every part: 4 V+ (power), 11 V- (power)
part A pins: 1 OUT A (out), 2 -IN A (in), 3 +IN A (in)
part B pins: 5 +IN B (in), 6 -IN B (in), 7 OUT B (out)
part C pins: 8 OUT C (out), 9 -IN C (in), 10 +IN C (in)
part D pins: 12 +IN D (in), 13 -IN D (in), 14 OUT D (out)

## LTC2052IS#PBF
designator U?
Quad Channel, Zero-Drift Operational Amplifier, 3 MHz Typical GBW, 2 V/us Typical SR, 2.7 to 6 V, 14-Pin SOIC (S-14), Industrial, Pb-Free; Linear Technology Part Number: LTC2052; Manufacturer: Linear Technology; PartNumber: LTC2052IS#PBF; Channels (#): 4; GBW (MHz) Typical: 3; Is (mA) Typical: 0.85; SR (V/us) Typical: 2; Vos (mV) Typical: 0.0005; Vs Max (V): 6; Vs Min (V): 2.7; DatasheetVersion: Rev. D; PackageVersion: Rev G; PackageReference: LT-S-14; PackageDescription: 14-Lead Plastic Small Outline, Body 8.65 x 3.90 mm, Pitch 1.27 mm; Supplier 1: Digi-Key; Supplier Part Number 1: LTC2052IS#PBF-ND; Supplier 2: Farnell; Supplier Part Number 2: 2294729; Supplier 3: Newark; Supplier Part Number 3: 56M4702; RoHS: Pb-Free; Type: ZD; Mounting Technology: Surface Mount; ComponentLink1Description: Manufacturer URL; ComponentLink1URL: http://www.linear.com/; ComponentLink2Description: Datasheet; ComponentLink2URL: http://cds.linear.com/docs/en/datasheet/20512fd.pdf; ComponentLink3Description: Package Specification; ComponentLink3URL: http://cds.linear.com/docs/en/packaging/05081610_G_S14.pdf
footprint LT-S-14_N (SOIC, 14-Leads, Body 8.65x3.90mm, Pitch 1.27mm, IPC Medium Density)
footprint LT-S-14_L (SOIC, 14-Leads, Body 8.65x3.90mm, Pitch 1.27mm, IPC High Density)
footprint LT-S-14_M (SOIC, 14-Leads, Body 8.65x3.90mm, Pitch 1.27mm, IPC Low Density)
pins on every part: 4 V+ (power), 11 V- (power)
part A pins: 1 OUT A (out), 2 -IN A (in), 3 +IN A (in)
part B pins: 5 +IN B (in), 6 -IN B (in), 7 OUT B (out)
part C pins: 8 OUT C (out), 9 -IN C (in), 10 +IN C (in)
part D pins: 12 +IN D (in), 13 -IN D (in), 14 OUT D (out)

## LTC2052IS#TR
designator U?
Quad Channel, Zero-Drift Operational Amplifier, 3 MHz Typical GBW, 2 V/us Typical SR, 2.7 to 6 V, 14-Pin SOIC (S-14), Industrial, Reel; Linear Technology Part Number: LTC2052; Manufacturer: Linear Technology; PartNumber: LTC2052IS#TR; Channels (#): 4; GBW (MHz) Typical: 3; Is (mA) Typical: 0.85; SR (V/us) Typical: 2; Vos (mV) Typical: 0.0005; Vs Max (V): 6; Vs Min (V): 2.7; DatasheetVersion: Rev. D; PackageVersion: Rev G; PackageReference: LT-S-14; PackageDescription: 14-Lead Plastic Small Outline, Body 8.65 x 3.90 mm, Pitch 1.27 mm; Supplier 1: Digi-Key; Supplier Part Number 1: LTC2052ISTR-ND; Packing: Reel; Type: ZD; Mounting Technology: Surface Mount; ComponentLink1Description: Manufacturer URL; ComponentLink1URL: http://www.linear.com/; ComponentLink2Description: Datasheet; ComponentLink2URL: http://cds.linear.com/docs/en/datasheet/20512fd.pdf; ComponentLink3Description: Package Specification; ComponentLink3URL: http://cds.linear.com/docs/en/packaging/05081610_G_S14.pdf
footprint LT-S-14_N (SOIC, 14-Leads, Body 8.65x3.90mm, Pitch 1.27mm, IPC Medium Density)
footprint LT-S-14_L (SOIC, 14-Leads, Body 8.65x3.90mm, Pitch 1.27mm, IPC High Density)
footprint LT-S-14_M (SOIC, 14-Leads, Body 8.65x3.90mm, Pitch 1.27mm, IPC Low Density)
pins on every part: 4 V+ (power), 11 V- (power)
part A pins: 1 OUT A (out), 2 -IN A (in), 3 +IN A (in)
part B pins: 5 +IN B (in), 6 -IN B (in), 7 OUT B (out)
part C pins: 8 OUT C (out), 9 -IN C (in), 10 +IN C (in)
part D pins: 12 +IN D (in), 13 -IN D (in), 14 OUT D (out)

## LTC2052IS#TRPBF
designator U?
Quad Channel, Zero-Drift Operational Amplifier, 3 MHz Typical GBW, 2 V/us Typical SR, 2.7 to 6 V, 14-Pin SOIC (S-14), Industrial, Pb-Free, Reel; Linear Technology Part Number: LTC2052; Manufacturer: Linear Technology; PartNumber: LTC2052IS#TRPBF; Channels (#): 4; GBW (MHz) Typical: 3; Is (mA) Typical: 0.85; SR (V/us) Typical: 2; Vos (mV) Typical: 0.0005; Vs Max (V): 6; Vs Min (V): 2.7; DatasheetVersion: Rev. D; PackageVersion: Rev G; PackageReference: LT-S-14; PackageDescription: 14-Lead Plastic Small Outline, Body 8.65 x 3.90 mm, Pitch 1.27 mm; Supplier 1: Digi-Key; Supplier Part Number 1: LTC2052IS#TRPBF-ND; Packing: Reel; RoHS: Pb-Free; Type: ZD; Mounting Technology: Surface Mount; ComponentLink1Description: Manufacturer URL; ComponentLink1URL: http://www.linear.com/; ComponentLink2Description: Datasheet; ComponentLink2URL: http://cds.linear.com/docs/en/datasheet/20512fd.pdf; ComponentLink3Description: Package Specification; ComponentLink3URL: http://cds.linear.com/docs/en/packaging/05081610_G_S14.pdf
footprint LT-S-14_N (SOIC, 14-Leads, Body 8.65x3.90mm, Pitch 1.27mm, IPC Medium Density)
footprint LT-S-14_L (SOIC, 14-Leads, Body 8.65x3.90mm, Pitch 1.27mm, IPC High Density)
footprint LT-S-14_M (SOIC, 14-Leads, Body 8.65x3.90mm, Pitch 1.27mm, IPC Low Density)
pins on every part: 4 V+ (power), 11 V- (power)
part A pins: 1 OUT A (out), 2 -IN A (in), 3 +IN A (in)
part B pins: 5 +IN B (in), 6 -IN B (in), 7 OUT B (out)
part C pins: 8 OUT C (out), 9 -IN C (in), 10 +IN C (in)
part D pins: 12 +IN D (in), 13 -IN D (in), 14 OUT D (out)

## LTC2053CMS8
designator U?
Single Channel, Precision, Rail-to-Rail, Zero-Drift, Resistor-Programmable Instrumentation Amplifier, 0.2 MHz Typical GBW, 0.2 V/us Typical SR, 2.7 to 11 V, 8-Pin SOP (MS8-8), Commercial; Linear Technology Part Number: LTC2053; Manufacturer: Linear Technology; PartNumber: LTC2053CMS8; Channels (#): 1; GBW (MHz) Typical: 0.2; Is (mA) Typical: 0.95; Vos (mV) Typical: 0.005; Vs Max (V): 11; Vs Min (V): 2.7; DatasheetVersion: Rev. C; PackageVersion: Rev G; PackageReference: LT-MS8-8; PackageDescription: 8-Lead Plastic Small Outline, Body 3.9 x 4.9 mm, Pitch 1.27 mm; Supplier 1: Digi-Key; Supplier Part Number 1: LTC2053CMS8-ND; Supplier 2: Newark; Supplier Part Number 2: 56M4709; SR (V/us) Typical: 0.2; Type: ZD, IA; Mounting Technology: Surface Mount; ComponentLink1Description: Manufacturer URL; ComponentLink1URL: http://www.linear.com/; ComponentLink2Description: Datasheet; ComponentLink2URL: http://cds.linear.com/docs/en/datasheet/2053syncfc.pdf; ComponentLink3Description: Package Specification; ComponentLink3URL: http://cds.linear.com/docs/en/packaging/05081610_G_SO8.pdf
footprint LT-MS8-8_N (SOP, 8-Leads, Body 3x3mm, Pitch 0.65mm, IPC Medium Density)
footprint LT-MS8-8_L (SOP, 8-Leads, Body 3x3mm, Pitch 0.65mm, IPC High Density)
footprint LT-MS8-8_M (SOP, 8-Leads, Body 3x3mm, Pitch 0.65mm, IPC Low Density)
pins: 1 ~{EN} (in) "Active Low Enable Pin.", 2 -IN (in) "Inverting Input.", 3 +IN (in) "Noninverting Input.", 4 V- (power) "Negative Supply.", 5 REF (in) "Voltage Reference (VREF) for Amplifier Output.", 6 RG "Inverting Input of Internal Op Amp.", 7 OUT (out) "Amplifier Output.", 8 V+ (power) "Positive Supply."

## LTC2053CMS8#PBF
designator U?
Single Channel, Precision, Rail-to-Rail, Zero-Drift, Resistor-Programmable Instrumentation Amplifier, 0.2 MHz Typical GBW, 0.2 V/us Typical SR, 2.7 to 11 V, 8-Pin SOP (MS8-8), Commercial, Pb-Free; Linear Technology Part Number: LTC2053; Manufacturer: Linear Technology; PartNumber: LTC2053CMS8#PBF; Channels (#): 1; GBW (MHz) Typical: 0.2; Is (mA) Typical: 0.95; Vos (mV) Typical: 0.005; Vs Max (V): 11; Vs Min (V): 2.7; DatasheetVersion: Rev. C; PackageVersion: Rev G; PackageReference: LT-MS8-8; PackageDescription: 8-Lead Plastic Small Outline, Body 3.9 x 4.9 mm, Pitch 1.27 mm; Supplier 1: Digi-Key; Supplier Part Number 1: LTC2053CMS8#PBF-ND; Supplier 2: Farnell; Supplier Part Number 2: 1330912; Supplier 3: Newark; Supplier Part Number 3: 56M4714; RoHS: Pb-Free; SR (V/us) Typical: 0.2; Type: ZD, IA; Mounting Technology: Surface Mount; ComponentLink1Description: Manufacturer URL; ComponentLink1URL: http://www.linear.com/; ComponentLink2Description: Datasheet; ComponentLink2URL: http://cds.linear.com/docs/en/datasheet/2053syncfc.pdf; ComponentLink3Description: Package Specification; ComponentLink3URL: http://cds.linear.com/docs/en/packaging/05081610_G_SO8.pdf
footprint LT-MS8-8_N (SOP, 8-Leads, Body 3x3mm, Pitch 0.65mm, IPC Medium Density)
footprint LT-MS8-8_L (SOP, 8-Leads, Body 3x3mm, Pitch 0.65mm, IPC High Density)
footprint LT-MS8-8_M (SOP, 8-Leads, Body 3x3mm, Pitch 0.65mm, IPC Low Density)
pins: 1 ~{EN} (in) "Active Low Enable Pin.", 2 -IN (in) "Inverting Input.", 3 +IN (in) "Noninverting Input.", 4 V- (power) "Negative Supply.", 5 REF (in) "Voltage Reference (VREF) for Amplifier Output.", 6 RG "Inverting Input of Internal Op Amp.", 7 OUT (out) "Amplifier Output.", 8 V+ (power) "Positive Supply."

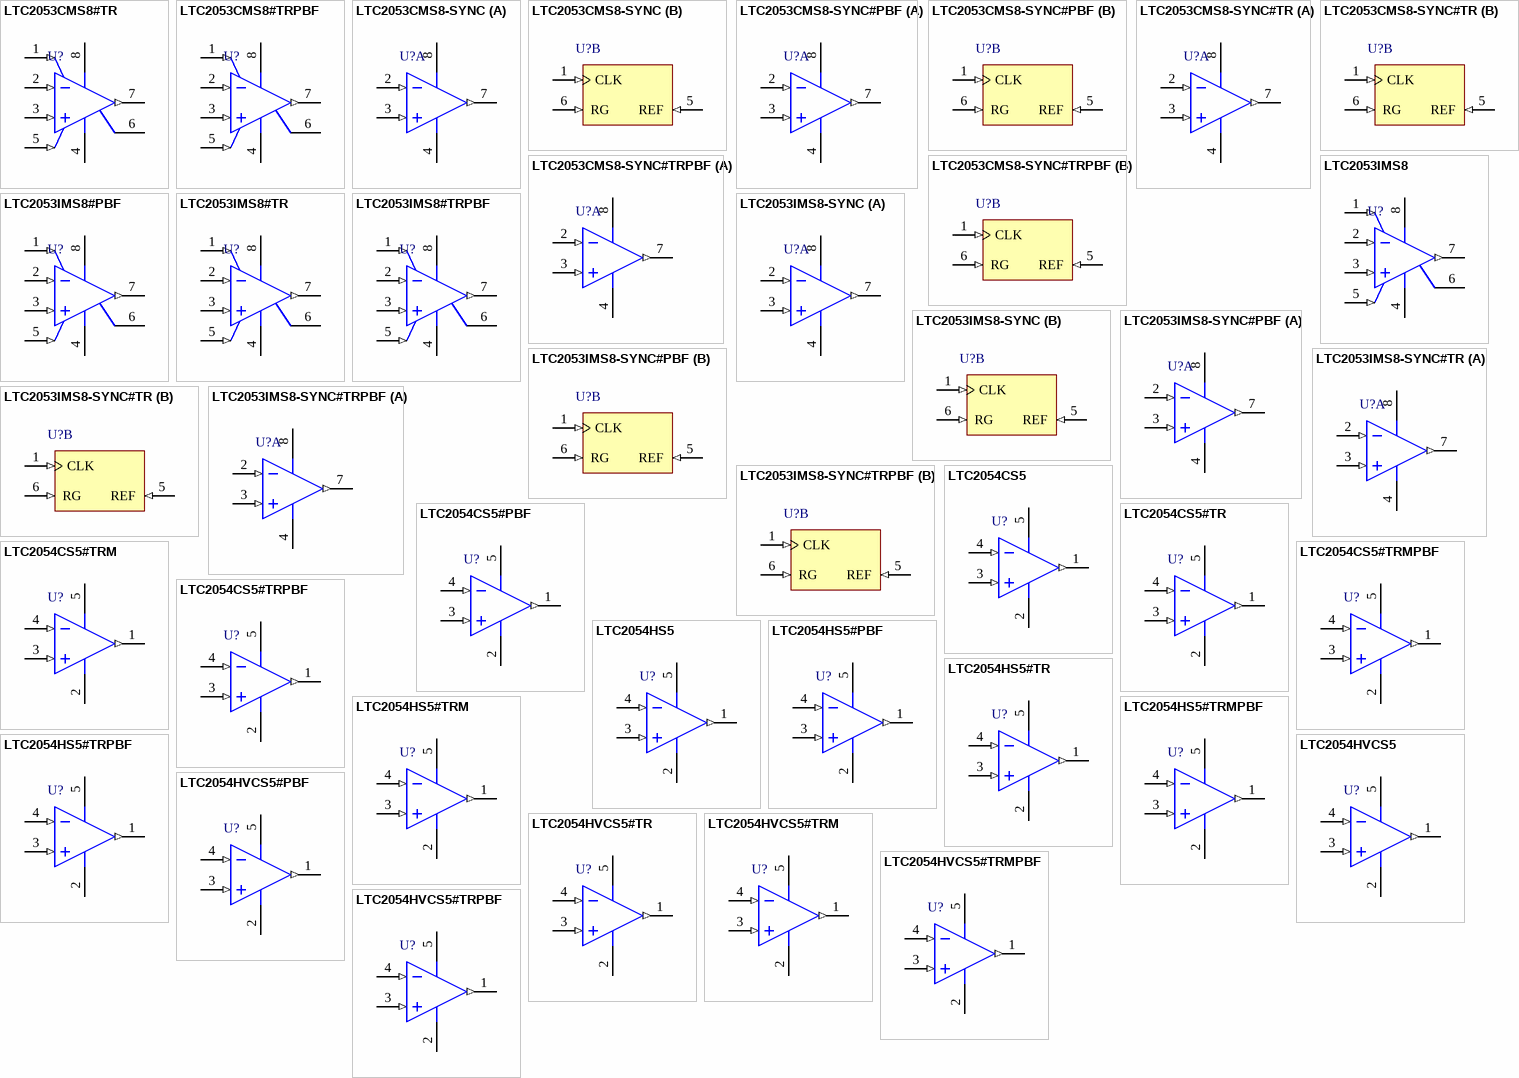
[diagram p47: symbols LTC2053CMS8#TR to LTC2054HVCS5#TRPBF]

## LTC2053CMS8#TR
designator U?
Single Channel, Precision, Rail-to-Rail, Zero-Drift, Resistor-Programmable Instrumentation Amplifier, 0.2 MHz Typical GBW, 0.2 V/us Typical SR, 2.7 to 11 V, 8-Pin SOP (MS8-8), Commercial, Reel; Linear Technology Part Number: LTC2053; Manufacturer: Linear Technology; PartNumber: LTC2053CMS8#TR; Channels (#): 1; GBW (MHz) Typical: 0.2; Is (mA) Typical: 0.95; Vos (mV) Typical: 0.005; Vs Max (V): 11; Vs Min (V): 2.7; DatasheetVersion: Rev. C; PackageVersion: Rev G; PackageReference: LT-MS8-8; PackageDescription: 8-Lead Plastic Small Outline, Body 3.9 x 4.9 mm, Pitch 1.27 mm; Supplier 1: Digi-Key; Supplier Part Number 1: LTC2053CMS8TR-ND; Packing: Reel; SR (V/us) Typical: 0.2; Type: ZD, IA; Mounting Technology: Surface Mount; ComponentLink1Description: Manufacturer URL; ComponentLink1URL: http://www.linear.com/; ComponentLink2Description: Datasheet; ComponentLink2URL: http://cds.linear.com/docs/en/datasheet/2053syncfc.pdf; ComponentLink3Description: Package Specification; ComponentLink3URL: http://cds.linear.com/docs/en/packaging/05081610_G_SO8.pdf
footprint LT-MS8-8_N (SOP, 8-Leads, Body 3x3mm, Pitch 0.65mm, IPC Medium Density)
footprint LT-MS8-8_L (SOP, 8-Leads, Body 3x3mm, Pitch 0.65mm, IPC High Density)
footprint LT-MS8-8_M (SOP, 8-Leads, Body 3x3mm, Pitch 0.65mm, IPC Low Density)
pins: 1 ~{EN} (in) "Active Low Enable Pin.", 2 -IN (in) "Inverting Input.", 3 +IN (in) "Noninverting Input.", 4 V- (power) "Negative Supply.", 5 REF (in) "Voltage Reference (VREF) for Amplifier Output.", 6 RG "Inverting Input of Internal Op Amp.", 7 OUT (out) "Amplifier Output.", 8 V+ (power) "Positive Supply."

## LTC2053CMS8#TRPBF
designator U?
Single Channel, Precision, Rail-to-Rail, Zero-Drift, Resistor-Programmable Instrumentation Amplifier, 0.2 MHz Typical GBW, 0.2 V/us Typical SR, 2.7 to 11 V, 8-Pin SOP (MS8-8), Commercial, Pb-Free, Reel; Linear Technology Part Number: LTC2053; Manufacturer: Linear Technology; PartNumber: LTC2053CMS8#TRPBF; Channels (#): 1; GBW (MHz) Typical: 0.2; Is (mA) Typical: 0.95; Vos (mV) Typical: 0.005; Vs Max (V): 11; Vs Min (V): 2.7; DatasheetVersion: Rev. C; PackageVersion: Rev G; PackageReference: LT-MS8-8; PackageDescription: 8-Lead Plastic Small Outline, Body 3.9 x 4.9 mm, Pitch 1.27 mm; Supplier 1: Digi-Key; Supplier Part Number 1: LTC2053CMS8#TRPBF-ND; Supplier 2: Newark; Supplier Part Number 2: 56M4716; Packing: Reel; RoHS: Pb-Free; SR (V/us) Typical: 0.2; Type: ZD, IA; Mounting Technology: Surface Mount; ComponentLink1Description: Manufacturer URL; ComponentLink1URL: http://www.linear.com/; ComponentLink2Description: Datasheet; ComponentLink2URL: http://cds.linear.com/docs/en/datasheet/2053syncfc.pdf; ComponentLink3Description: Package Specification; ComponentLink3URL: http://cds.linear.com/docs/en/packaging/05081610_G_SO8.pdf
footprint LT-MS8-8_N (SOP, 8-Leads, Body 3x3mm, Pitch 0.65mm, IPC Medium Density)
footprint LT-MS8-8_L (SOP, 8-Leads, Body 3x3mm, Pitch 0.65mm, IPC High Density)
footprint LT-MS8-8_M (SOP, 8-Leads, Body 3x3mm, Pitch 0.65mm, IPC Low Density)
pins: 1 ~{EN} (in) "Active Low Enable Pin.", 2 -IN (in) "Inverting Input.", 3 +IN (in) "Noninverting Input.", 4 V- (power) "Negative Supply.", 5 REF (in) "Voltage Reference (VREF) for Amplifier Output.", 6 RG "Inverting Input of Internal Op Amp.", 7 OUT (out) "Amplifier Output.", 8 V+ (power) "Positive Supply."

## LTC2053CMS8-SYNC
designator U?
Single Channel, Precision, Rail-to-Rail, Zero-Drift, Resistor-Programmable Instrumentation Amplifier, 0.2 MHz Typical GBW, 0.2 V/us Typical SR, 2.7 to 11 V, 8-Pin SOP (MS8-8), Commercial; Linear Technology Part Number: LTC2053-SYNC; Manufacturer: Linear Technology; PartNumber: LTC2053CMS8-SYNC; Channels (#): 1; GBW (MHz) Typical: 0.2; Is (mA) Typical: 0.95; Vos (mV) Typical: 0.005; Vs Max (V): 11; Vs Min (V): 2.7; DatasheetVersion: Rev. C; PackageVersion: Rev G; PackageReference: LT-MS8-8; PackageDescription: 8-Lead Plastic Small Outline, Body 3.9 x 4.9 mm, Pitch 1.27 mm; SR (V/us) Typical: 0.2; Type: ZD, IA; Mounting Technology: Surface Mount; ComponentLink1Description: Manufacturer URL; ComponentLink1URL: http://www.linear.com/; ComponentLink2Description: Datasheet; ComponentLink2URL: http://cds.linear.com/docs/en/datasheet/2053syncfc.pdf; ComponentLink3Description: Package Specification; ComponentLink3URL: http://cds.linear.com/docs/en/packaging/05081610_G_SO8.pdf
footprint LT-MS8-8_N (SOP, 8-Leads, Body 3x3mm, Pitch 0.65mm, IPC Medium Density)
footprint LT-MS8-8_L (SOP, 8-Leads, Body 3x3mm, Pitch 0.65mm, IPC High Density)
footprint LT-MS8-8_M (SOP, 8-Leads, Body 3x3mm, Pitch 0.65mm, IPC Low Density)
part A pins: 2 -IN (in) "Inverting Input", 3 +IN (in) "Noninverting Input.", 4 V- (power) "Negative Supply.", 7 OUT (out) "Amplifier Output.", 8 V+ (power) "Positive Supply."
part B pins: 1 CLK (in) "Clock input for Synchronizing to External System Clock.", 5 REF (in) "Voltage Reference (VREF) for Amplifier Output", 6 RG (in) "Inverting Input of Internal Op Amp"

## LTC2053CMS8-SYNC#PBF
designator U?
Single Channel, Precision, Rail-to-Rail, Zero-Drift, Resistor-Programmable Instrumentation Amplifier, 0.2 MHz Typical GBW, 0.2 V/us Typical SR, 2.7 to 11 V, 8-Pin SOP (MS8-8), Commercial, Pb-Free; Linear Technology Part Number: LTC2053-SYNC; Manufacturer: Linear Technology; PartNumber: LTC2053CMS8-SYNC#PBF; Channels (#): 1; GBW (MHz) Typical: 0.2; Is (mA) Typical: 0.95; Vos (mV) Typical: 0.005; Vs Max (V): 11; Vs Min (V): 2.7; DatasheetVersion: Rev. C; PackageVersion: Rev G; PackageReference: LT-MS8-8; PackageDescription: 8-Lead Plastic Small Outline, Body 3.9 x 4.9 mm, Pitch 1.27 mm; Supplier 1: Digi-Key; Supplier Part Number 1: LTC2053CMS8-SYNC#PBF-ND; Supplier 2: Farnell; Supplier Part Number 2: 1330914; Supplier 3: Newark; Supplier Part Number 3: 56M4711; RoHS: Pb-Free; SR (V/us) Typical: 0.2; Type: ZD, IA; Mounting Technology: Surface Mount; ComponentLink1Description: Manufacturer URL; ComponentLink1URL: http://www.linear.com/; ComponentLink2Description: Datasheet; ComponentLink2URL: http://cds.linear.com/docs/en/datasheet/2053syncfc.pdf; ComponentLink3Description: Package Specification; ComponentLink3URL: http://cds.linear.com/docs/en/packaging/05081610_G_SO8.pdf
footprint LT-MS8-8_N (SOP, 8-Leads, Body 3x3mm, Pitch 0.65mm, IPC Medium Density)
footprint LT-MS8-8_L (SOP, 8-Leads, Body 3x3mm, Pitch 0.65mm, IPC High Density)
footprint LT-MS8-8_M (SOP, 8-Leads, Body 3x3mm, Pitch 0.65mm, IPC Low Density)
part A pins: 2 -IN (in) "Inverting Input", 3 +IN (in) "Noninverting Input.", 4 V- (power) "Negative Supply.", 7 OUT (out) "Amplifier Output.", 8 V+ (power) "Positive Supply."
part B pins: 1 CLK (in) "Clock input for Synchronizing to External System Clock.", 5 REF (in) "Voltage Reference (VREF) for Amplifier Output", 6 RG (in) "Inverting Input of Internal Op Amp"

## LTC2053CMS8-SYNC#TR
designator U?
Single Channel, Precision, Rail-to-Rail, Zero-Drift, Resistor-Programmable Instrumentation Amplifier, 0.2 MHz Typical GBW, 0.2 V/us Typical SR, 2.7 to 11 V, 8-Pin SOP (MS8-8), Commercial, Reel; Linear Technology Part Number: LTC2053-SYNC; Manufacturer: Linear Technology; PartNumber: LTC2053CMS8-SYNC#TR; Channels (#): 1; GBW (MHz) Typical: 0.2; Is (mA) Typical: 0.95; Vos (mV) Typical: 0.005; Vs Max (V): 11; Vs Min (V): 2.7; DatasheetVersion: Rev. C; PackageVersion: Rev G; PackageReference: LT-MS8-8; PackageDescription: 8-Lead Plastic Small Outline, Body 3.9 x 4.9 mm, Pitch 1.27 mm; Packing: Reel; SR (V/us) Typical: 0.2; Type: ZD, IA; Mounting Technology: Surface Mount; ComponentLink1Description: Manufacturer URL; ComponentLink1URL: http://www.linear.com/; ComponentLink2Description: Datasheet; ComponentLink2URL: http://cds.linear.com/docs/en/datasheet/2053syncfc.pdf; ComponentLink3Description: Package Specification; ComponentLink3URL: http://cds.linear.com/docs/en/packaging/05081610_G_SO8.pdf
footprint LT-MS8-8_N (SOP, 8-Leads, Body 3x3mm, Pitch 0.65mm, IPC Medium Density)
footprint LT-MS8-8_L (SOP, 8-Leads, Body 3x3mm, Pitch 0.65mm, IPC High Density)
footprint LT-MS8-8_M (SOP, 8-Leads, Body 3x3mm, Pitch 0.65mm, IPC Low Density)
part A pins: 2 -IN (in) "Inverting Input", 3 +IN (in) "Noninverting Input.", 4 V- (power) "Negative Supply.", 7 OUT (out) "Amplifier Output.", 8 V+ (power) "Positive Supply."
part B pins: 1 CLK (in) "Clock input for Synchronizing to External System Clock.", 5 REF (in) "Voltage Reference (VREF) for Amplifier Output", 6 RG (in) "Inverting Input of Internal Op Amp"

## LTC2053CMS8-SYNC#TRPBF
designator U?
Single Channel, Precision, Rail-to-Rail, Zero-Drift, Resistor-Programmable Instrumentation Amplifier, 0.2 MHz Typical GBW, 0.2 V/us Typical SR, 2.7 to 11 V, 8-Pin SOP (MS8-8), Commercial, Pb-Free, Reel; Linear Technology Part Number: LTC2053-SYNC; Manufacturer: Linear Technology; PartNumber: LTC2053CMS8-SYNC#TRPBF; Channels (#): 1; GBW (MHz) Typical: 0.2; Is (mA) Typical: 0.95; Vos (mV) Typical: 0.005; Vs Max (V): 11; Vs Min (V): 2.7; DatasheetVersion: Rev. C; PackageVersion: Rev G; PackageReference: LT-MS8-8; PackageDescription: 8-Lead Plastic Small Outline, Body 3.9 x 4.9 mm, Pitch 1.27 mm; Supplier 1: Digi-Key; Supplier Part Number 1: LTC2053CMS8-SYNC#TRPBF-ND; Packing: Reel; RoHS: Pb-Free; SR (V/us) Typical: 0.2; Type: ZD, IA; Mounting Technology: Surface Mount; ComponentLink1Description: Manufacturer URL; ComponentLink1URL: http://www.linear.com/; ComponentLink2Description: Datasheet; ComponentLink2URL: http://cds.linear.com/docs/en/datasheet/2053syncfc.pdf; ComponentLink3Description: Package Specification; ComponentLink3URL: http://cds.linear.com/docs/en/packaging/05081610_G_SO8.pdf
footprint LT-MS8-8_N (SOP, 8-Leads, Body 3x3mm, Pitch 0.65mm, IPC Medium Density)
footprint LT-MS8-8_L (SOP, 8-Leads, Body 3x3mm, Pitch 0.65mm, IPC High Density)
footprint LT-MS8-8_M (SOP, 8-Leads, Body 3x3mm, Pitch 0.65mm, IPC Low Density)
part A pins: 2 -IN (in) "Inverting Input", 3 +IN (in) "Noninverting Input.", 4 V- (power) "Negative Supply.", 7 OUT (out) "Amplifier Output.", 8 V+ (power) "Positive Supply."
part B pins: 1 CLK (in) "Clock input for Synchronizing to External System Clock.", 5 REF (in) "Voltage Reference (VREF) for Amplifier Output", 6 RG (in) "Inverting Input of Internal Op Amp"

## LTC2053IMS8
designator U?
Single Channel, Precision, Rail-to-Rail, Zero-Drift, Resistor-Programmable Instrumentation Amplifier, 0.2 MHz Typical GBW, 0.2 V/us Typical SR, 2.7 to 11 V, 8-Pin SOP (MS8-8), Industrial; Linear Technology Part Number: LTC2053; Manufacturer: Linear Technology; PartNumber: LTC2053IMS8; Channels (#): 1; GBW (MHz) Typical: 0.2; Is (mA) Typical: 0.95; Vos (mV) Typical: 0.005; Vs Max (V): 11; Vs Min (V): 2.7; DatasheetVersion: Rev. C; PackageVersion: Rev G; PackageReference: LT-MS8-8; PackageDescription: 8-Lead Plastic Small Outline, Body 3.9 x 4.9 mm, Pitch 1.27 mm; Supplier 1: Digi-Key; Supplier Part Number 1: LTC2053IMS8-ND; Supplier 2: Newark; Supplier Part Number 2: 56M4729; SR (V/us) Typical: 0.2; Type: ZD, IA; Mounting Technology: Surface Mount; ComponentLink1Description: Manufacturer URL; ComponentLink1URL: http://www.linear.com/; ComponentLink2Description: Datasheet; ComponentLink2URL: http://cds.linear.com/docs/en/datasheet/2053syncfc.pdf; ComponentLink3Description: Package Specification; ComponentLink3URL: http://cds.linear.com/docs/en/packaging/05081610_G_SO8.pdf
footprint LT-MS8-8_N (SOP, 8-Leads, Body 3x3mm, Pitch 0.65mm, IPC Medium Density)
footprint LT-MS8-8_L (SOP, 8-Leads, Body 3x3mm, Pitch 0.65mm, IPC High Density)
footprint LT-MS8-8_M (SOP, 8-Leads, Body 3x3mm, Pitch 0.65mm, IPC Low Density)
pins: 1 ~{EN} (in) "Active Low Enable Pin.", 2 -IN (in) "Inverting Input.", 3 +IN (in) "Noninverting Input.", 4 V- (power) "Negative Supply.", 5 REF (in) "Voltage Reference (VREF) for Amplifier Output.", 6 RG "Inverting Input of Internal Op Amp.", 7 OUT (out) "Amplifier Output.", 8 V+ (power) "Positive Supply."

## LTC2053IMS8#PBF
designator U?
Single Channel, Precision, Rail-to-Rail, Zero-Drift, Resistor-Programmable Instrumentation Amplifier, 0.2 MHz Typical GBW, 0.2 V/us Typical SR, 2.7 to 11 V, 8-Pin SOP (MS8-8), Industrial, Pb-Free; Linear Technology Part Number: LTC2053; Manufacturer: Linear Technology; PartNumber: LTC2053IMS8#PBF; Channels (#): 1; GBW (MHz) Typical: 0.2; Is (mA) Typical: 0.95; Vos (mV) Typical: 0.005; Vs Max (V): 11; Vs Min (V): 2.7; DatasheetVersion: Rev. C; PackageVersion: Rev G; PackageReference: LT-MS8-8; PackageDescription: 8-Lead Plastic Small Outline, Body 3.9 x 4.9 mm, Pitch 1.27 mm; Supplier 1: Digi-Key; Supplier Part Number 1: LTC2053IMS8#PBF-ND; Supplier 2: Farnell; Supplier Part Number 2: 1663681; Supplier 3: Newark; Supplier Part Number 3: 56M4734; RoHS: Pb-Free; SR (V/us) Typical: 0.2; Type: ZD, IA; Mounting Technology: Surface Mount; ComponentLink1Description: Manufacturer URL; ComponentLink1URL: http://www.linear.com/; ComponentLink2Description: Datasheet; ComponentLink2URL: http://cds.linear.com/docs/en/datasheet/2053syncfc.pdf; ComponentLink3Description: Package Specification; ComponentLink3URL: http://cds.linear.com/docs/en/packaging/05081610_G_SO8.pdf
footprint LT-MS8-8_N (SOP, 8-Leads, Body 3x3mm, Pitch 0.65mm, IPC Medium Density)
footprint LT-MS8-8_L (SOP, 8-Leads, Body 3x3mm, Pitch 0.65mm, IPC High Density)
footprint LT-MS8-8_M (SOP, 8-Leads, Body 3x3mm, Pitch 0.65mm, IPC Low Density)
pins: 1 ~{EN} (in) "Active Low Enable Pin.", 2 -IN (in) "Inverting Input.", 3 +IN (in) "Noninverting Input.", 4 V- (power) "Negative Supply.", 5 REF (in) "Voltage Reference (VREF) for Amplifier Output.", 6 RG "Inverting Input of Internal Op Amp.", 7 OUT (out) "Amplifier Output.", 8 V+ (power) "Positive Supply."

## LTC2053IMS8#TR
designator U?
Single Channel, Precision, Rail-to-Rail, Zero-Drift, Resistor-Programmable Instrumentation Amplifier, 0.2 MHz Typical GBW, 0.2 V/us Typical SR, 2.7 to 11 V, 8-Pin SOP (MS8-8), Industrial, Reel; Linear Technology Part Number: LTC2053; Manufacturer: Linear Technology; PartNumber: LTC2053IMS8#TR; Channels (#): 1; GBW (MHz) Typical: 0.2; Is (mA) Typical: 0.95; Vos (mV) Typical: 0.005; Vs Max (V): 11; Vs Min (V): 2.7; DatasheetVersion: Rev. C; PackageVersion: Rev G; PackageReference: LT-MS8-8; PackageDescription: 8-Lead Plastic Small Outline, Body 3.9 x 4.9 mm, Pitch 1.27 mm; Supplier 1: Digi-Key; Supplier Part Number 1: LTC2053IMS8TR-ND; Supplier 2: Newark; Supplier Part Number 2: 56M4735; Packing: Reel; SR (V/us) Typical: 0.2; Type: ZD, IA; Mounting Technology: Surface Mount; ComponentLink1Description: Manufacturer URL; ComponentLink1URL: http://www.linear.com/; ComponentLink2Description: Datasheet; ComponentLink2URL: http://cds.linear.com/docs/en/datasheet/2053syncfc.pdf; ComponentLink3Description: Package Specification; ComponentLink3URL: http://cds.linear.com/docs/en/packaging/05081610_G_SO8.pdf
footprint LT-MS8-8_N (SOP, 8-Leads, Body 3x3mm, Pitch 0.65mm, IPC Medium Density)
footprint LT-MS8-8_L (SOP, 8-Leads, Body 3x3mm, Pitch 0.65mm, IPC High Density)
footprint LT-MS8-8_M (SOP, 8-Leads, Body 3x3mm, Pitch 0.65mm, IPC Low Density)
pins: 1 ~{EN} (in) "Active Low Enable Pin.", 2 -IN (in) "Inverting Input.", 3 +IN (in) "Noninverting Input.", 4 V- (power) "Negative Supply.", 5 REF (in) "Voltage Reference (VREF) for Amplifier Output.", 6 RG "Inverting Input of Internal Op Amp.", 7 OUT (out) "Amplifier Output.", 8 V+ (power) "Positive Supply."